# Altium schematic symbol library Schlib1.SchLib: 17 symbols
Pins are listed as number, name and electrical type; pins without a type are passive.

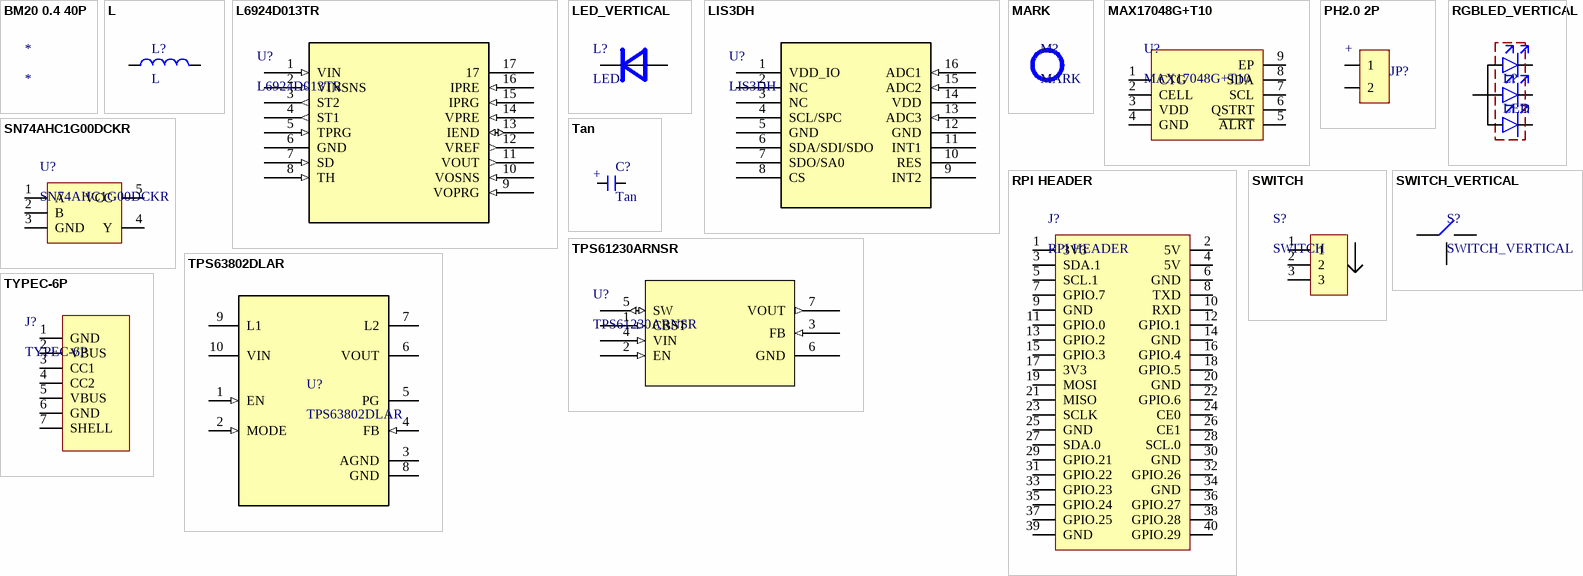
[diagram p0: symbols BM20 0.4 40P to TYPEC-6P]

## BM20 0.4 40P
designator *

## L
designator L?
footprint L0806
footprint L SMD (https://item.szlcsc.com/397734.html)
pins: 1, 2

## L6924D013TR
designator U?
No Description Available; SourceLibrary: Updates_to_database_2020-11-10; Built_By: EMA_UL_Team; Vendor: STMicroelectronics; Manufacturer_Part_Number: L6924D013TR; Copyright: Copyright (C) 2021 Accelerated Designs. All rights reserved; RefDes: RefDes; Type: DEV
footprint VFQFPN-16_STM-M
pins: 1 VIN (in), 2 VINSNS (in), 3 ST2 (out), 4 ST1 (out), 5 TPRG (in), 6 GND, 7 SD (in), 8 TH (in), 9 VOPRG (in), 10 VOSNS (in), 11 VOUT (out), 12 VREF (out), 13 IEND (io), 14 VPRE (in), 15 IPRG (in), 16 IPRE (in), 17

## LED_VERTICAL
designator L?, comment LED
footprint XL-C3014UWC (https://item.szlcsc.com/3033146.html)
pins: 1, 2

## LIS3DH
designator U?
No Description Available; SourceLibrary: Updates_to_database_2020-11-03; Built_By: EMA_UL_Team; Vendor: STMicroelectronics; Manufacturer_Part_Number: LIS3DH; Copyright: Copyright (C) 2021 Accelerated Designs. All rights reserved; RefDes: RefDes; Type: DEV
footprint LGA-16_3x3x1mm_STM-M
pins: 1 VDD_IO (power), 2 NC, 3 NC, 4 SCL/SPC, 5 GND (power), 6 SDA/SDI/SDO, 7 SDO/SA0, 8 CS, 9 INT2, 10 RES, 11 INT1, 12 GND (power), 13 ADC3 (in), 14 VDD (power), 15 ADC2 (in), 16 ADC1 (in)

## MARK
designator M?
footprint MARK

## MAX17048G+T10
designator U?
footprint TDFN-8_EP (https://item.szlcsc.com/2777647.html)
pins: 1 CTG, 2 CELL, 3 VDD, 4 GND, 5 ~{ALRT}, 6 QSTRT, 7 SCL, 8 SDA, 9 EP

## PH2.0 2P
designator JP?  (value not drawn)
footprint PH2.0 2P (https://item.szlcsc.com/698563.html)
pins: 1, 2
text: +

## RGBLED_VERTICAL
designator L?, comment LED
footprint FM-3510RGBA-SG (https://item.szlcsc.com/775226.html)
pins: 1 B, 2 V, 3 G, 4 R

## RPI HEADER
designator J?
footprint HEADER 2*20 SMD FRONT (https://item.szlcsc.com/2784389.html)
footprint HEADER 2*20 SMD BACK (https://item.szlcsc.com/2784389.html)
footprint HEADER 2*20 BACK (https://item.szlcsc.com/2784386.html)
footprint HEADER 2*20 FRONT (https://item.szlcsc.com/2784386.html)
pins: 1 3V3 (power), 2 5V, 3 SDA.1, 4 5V, 5 SCL.1, 6 GND, 7 GPIO.7, 8 TXD, 9 GND, 10 RXD, 11 GPIO.0, 12 GPIO.1, 13 GPIO.2, 14 GND, 15 GPIO.3, 16 GPIO.4, 17 3V3, 18 GPIO.5, 19 MOSI, 20 GND, 21 MISO, 22 GPIO.6, 23 SCLK, 24 CE0, 25 GND, 26 CE1, 27 SDA.0, 28 SCL.0, 29 GPIO.21, 30 GND, 31 GPIO.22, 32 GPIO.26, 33 GPIO.23, 34 GND, 35 GPIO.24, 36 GPIO.27, 37 GPIO.25, 38 GPIO.28, 39 GND, 40 GPIO.29

## SN74AHC1G00DCKR
designator U?
footprint SC-70-5 (https://item.szlcsc.com/485828.html)
pins: 1 A, 2 B, 3 GND, 4 Y, 5 VCC

## SWITCH
designator S?
footprint SWITCH
pins: 1, 2, 3

## SWITCH_VERTICAL
designator S?
footprint TA3-2W2-V-T/R (https://item.szlcsc.com/513960.html)
pins: 1, 2, 3

## Tan
designator C?
footprint F981A106MMA (https://item.szlcsc.com/446084.html)
footprint AVX1210 (https://item.szlcsc.com/22760.html)
footprint AVX3216 (https://item.szlcsc.com/269055.html)
footprint AVX3528
pins: 1 84, 2 85
text: +

## TPS61230ARNSR
designator U?
No Description Available; Mfr_Name: Texas Instruments; Copyright: Copyright (C) 2022 Ultra Librarian. All rights reserved.; Manufacturer_Part_Number: TPS61230ARNSR; RefDes: RefDes; Type: DEV
footprint VQFN7_2X2_TEX-M
pins: 1 CBST (in), 2 EN (in), 3 FB (in), 4 VIN (in), 5 SW (io), 6 GND (power), 7 VOUT (out)

## TPS63802DLAR
designator U?
No Description Available; Mfr_Name: Texas Instruments; TYPE: TYPE; RefDes: RefDes; Copyright: Copyright (C) 2022 Ultra Librarian. All rights reserved.; Manufacturer_Part_Number: TPS63802DLAR
footprint DLA0010A
pins: 1 EN (in), 2 MODE (in), 3 AGND (power), 4 FB (in), 5 PG (oc), 6 VOUT (power), 7 L2, 8 GND (power), 9 L1, 10 VIN (power)

## TYPEC-6P
designator J?
footprint TYPEC-6P-SMD (https://item.szlcsc.com/2774891.html)
pins: 1 GND, 2 VBUS, 3 CC1, 4 CC2, 5 VBUS, 6 GND, 7 SHELL